# Altium schematic symbol library capacitor_murata_1206.SchLib: 470 symbols (part 10 of 10)
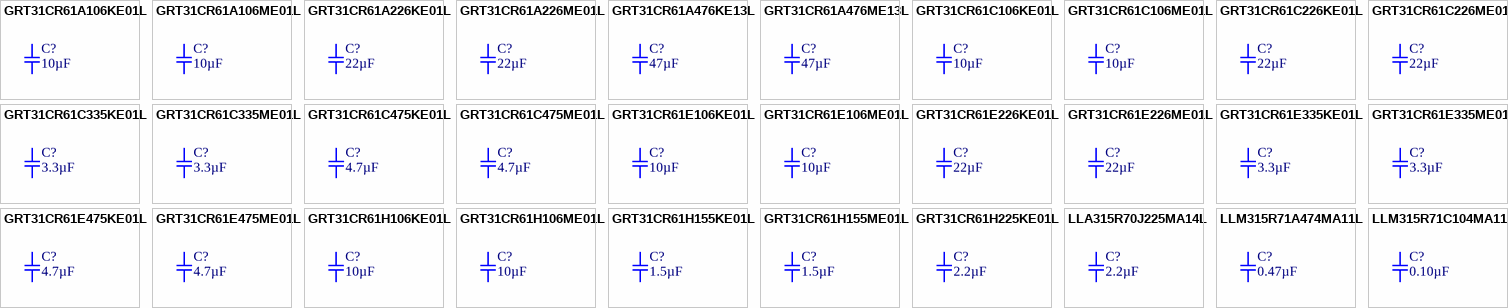
[diagram p20: symbols GRT31CR61A106KE01L to LLM315R71C104MA11L]

## GRT31CR61E475KE01L
designator C?, comment 4.7µF
CAP CER 4.7UF 25V X5R 1206; Part Number: GRT31CR61E475KE01L; Manufacturer: Murata Electronics North America; Factory Stock: 0; Unit Price (USD): 0.48; Minimum Quantity: 1; Tolerance: ±10%; Datasheets: http://search.murata.co.jp/Ceramy/image/img/A01X/G101/ENG/GRT31CR61E475KE01-01.pdf; Image: //media.digikey.com/Renders/Murata%20Renders/GR331BD72E473KW01L.jpg; Digi-Key Part Number: 490-12454-1-ND; Quantity Available: 3750; @ qty: 0; Packaging: Cut Tape (CT); Series: GRT; Part Status: Active; Value: 4.7µF; Voltage: 25V; Temperature Coefficient: X5R; Operating Temperature: -55°C ~ 85°C; Features: -; Ratings: AEC-Q200; Applications: Automotive; Mounting Type: Surface Mount, MLCC; Package / Case: 1206 (3216 Metric); Size / Dimension: 0.126" L x 0.063" W (3.20mm x 1.60mm); Height - Seated (Max): -; Thickness (Max): 0.071" (1.80mm); Lead Spacing: -; Lead Style: -
footprint SMD-1206C
pins: 1, 2

## GRT31CR61E475ME01L
designator C?, comment 4.7µF
CAP CER 4.7UF 25V X5R 1206; Part Number: GRT31CR61E475ME01L; Manufacturer: Murata Electronics North America; Factory Stock: 0; Unit Price (USD): 0.48; Minimum Quantity: 1; Tolerance: ±20%; Datasheets: http://search.murata.co.jp/Ceramy/image/img/A01X/G101/ENG/GRT31CR61E475ME01-01.pdf; Image: //media.digikey.com/Renders/Murata%20Renders/GR331BD72E473KW01L.jpg; Digi-Key Part Number: 490-12455-1-ND; Quantity Available: 4000; @ qty: 0; Packaging: Cut Tape (CT); Series: GRT; Part Status: Active; Value: 4.7µF; Voltage: 25V; Temperature Coefficient: X5R; Operating Temperature: -55°C ~ 85°C; Features: -; Ratings: AEC-Q200; Applications: Automotive; Mounting Type: Surface Mount, MLCC; Package / Case: 1206 (3216 Metric); Size / Dimension: 0.126" L x 0.063" W (3.20mm x 1.60mm); Height - Seated (Max): -; Thickness (Max): 0.071" (1.80mm); Lead Spacing: -; Lead Style: -
footprint SMD-1206C
pins: 1, 2

## GRT31CR61H106KE01L
designator C?, comment 10µF
CAP CER 10UF 50V X5R 1206; Part Number: GRT31CR61H106KE01L; Manufacturer: Murata Electronics North America; Factory Stock: 0; Unit Price (USD): 0.78; Minimum Quantity: 1; Tolerance: ±10%; Datasheets: http://search.murata.co.jp/Ceramy/image/img/A01X/G101/ENG/GRT31CR61H106KE01-01.pdf; Image: //media.digikey.com/Renders/Murata%20Renders/GR331BD72E473KW01L.jpg; Digi-Key Part Number: 490-12456-1-ND; Quantity Available: 2665; @ qty: 0; Packaging: Cut Tape (CT); Series: GRT; Part Status: Active; Value: 10µF; Voltage: 50V; Temperature Coefficient: X5R; Operating Temperature: -55°C ~ 85°C; Features: -; Ratings: AEC-Q200; Applications: Automotive; Mounting Type: Surface Mount, MLCC; Package / Case: 1206 (3216 Metric); Size / Dimension: 0.126" L x 0.063" W (3.20mm x 1.60mm); Height - Seated (Max): -; Thickness (Max): 0.071" (1.80mm); Lead Spacing: -; Lead Style: -
footprint SMD-1206C
pins: 1, 2

## GRT31CR61H106ME01L
designator C?, comment 10µF
CAP CER 10UF 50V X5R 1206; Part Number: GRT31CR61H106ME01L; Manufacturer: Murata Electronics North America; Factory Stock: 0; Unit Price (USD): 0.42; Minimum Quantity: 1; Tolerance: ±20%; Datasheets: http://search.murata.co.jp/Ceramy/image/img/A01X/G101/ENG/GRT31CR61H106ME01-01.pdf; Image: //media.digikey.com/Renders/Murata%20Renders/GR331BD72E473KW01L.jpg; Digi-Key Part Number: 490-12457-1-ND; Quantity Available: 3394; @ qty: 0; Packaging: Cut Tape (CT); Series: GRT; Part Status: Active; Value: 10µF; Voltage: 50V; Temperature Coefficient: X5R; Operating Temperature: -55°C ~ 85°C; Features: -; Ratings: AEC-Q200; Applications: Automotive; Mounting Type: Surface Mount, MLCC; Package / Case: 1206 (3216 Metric); Size / Dimension: 0.126" L x 0.063" W (3.20mm x 1.60mm); Height - Seated (Max): -; Thickness (Max): 0.071" (1.80mm); Lead Spacing: -; Lead Style: -
footprint SMD-1206C
pins: 1, 2

## GRT31CR61H155KE01L
designator C?, comment 1.5µF
CAP CER 1.5UF 50V X5R 1206; Part Number: GRT31CR61H155KE01L; Manufacturer: Murata Electronics North America; Factory Stock: 0; Unit Price (USD): 0.45; Minimum Quantity: 1; Tolerance: ±10%; Datasheets: http://search.murata.co.jp/Ceramy/image/img/A01X/G101/ENG/GRT31CR61H155KE01-01.pdf; Image: //media.digikey.com/Renders/Murata%20Renders/GR331BD72E473KW01L.jpg; Digi-Key Part Number: 490-12458-1-ND; Quantity Available: 1942; @ qty: 0; Packaging: Cut Tape (CT); Series: GRT; Part Status: Active; Value: 1.5µF; Voltage: 50V; Temperature Coefficient: X5R; Operating Temperature: -55°C ~ 85°C; Features: -; Ratings: AEC-Q200; Applications: Automotive; Mounting Type: Surface Mount, MLCC; Package / Case: 1206 (3216 Metric); Size / Dimension: 0.126" L x 0.063" W (3.20mm x 1.60mm); Height - Seated (Max): -; Thickness (Max): 0.071" (1.80mm); Lead Spacing: -; Lead Style: -
footprint SMD-1206C
pins: 1, 2

## GRT31CR61H155ME01L
designator C?, comment 1.5µF
CAP CER 1.5UF 50V X5R 1206; Part Number: GRT31CR61H155ME01L; Manufacturer: Murata Electronics North America; Factory Stock: 0; Unit Price (USD): 0.45; Minimum Quantity: 1; Tolerance: ±20%; Datasheets: http://search.murata.co.jp/Ceramy/image/img/A01X/G101/ENG/GRT31CR61H155ME01-01.pdf; Image: //media.digikey.com/Renders/Murata%20Renders/GR331BD72E473KW01L.jpg; Digi-Key Part Number: 490-12459-1-ND; Quantity Available: 3984; @ qty: 0; Packaging: Cut Tape (CT); Series: GRT; Part Status: Active; Value: 1.5µF; Voltage: 50V; Temperature Coefficient: X5R; Operating Temperature: -55°C ~ 85°C; Features: -; Ratings: AEC-Q200; Applications: Automotive; Mounting Type: Surface Mount, MLCC; Package / Case: 1206 (3216 Metric); Size / Dimension: 0.126" L x 0.063" W (3.20mm x 1.60mm); Height - Seated (Max): -; Thickness (Max): 0.071" (1.80mm); Lead Spacing: -; Lead Style: -
footprint SMD-1206C
pins: 1, 2

## GRT31CR61H225KE01L
designator C?, comment 2.2µF
CAP CER 2.2UF 50V X5R 1206; Part Number: GRT31CR61H225KE01L; Manufacturer: Murata Electronics North America; Factory Stock: 0; Unit Price (USD): 0.55; Minimum Quantity: 1; Tolerance: ±10%; Datasheets: http://search.murata.co.jp/Ceramy/image/img/A01X/G101/ENG/GRT31CR61H225KE01-01.pdf; Image: //media.digikey.com/Renders/Murata%20Renders/GR331BD72E473KW01L.jpg; Digi-Key Part Number: 490-12460-1-ND; Quantity Available: 3690; @ qty: 0; Packaging: Cut Tape (CT); Series: GRT; Part Status: Active; Value: 2.2µF; Voltage: 50V; Temperature Coefficient: X5R; Operating Temperature: -55°C ~ 85°C; Features: -; Ratings: AEC-Q200; Applications: Automotive; Mounting Type: Surface Mount, MLCC; Package / Case: 1206 (3216 Metric); Size / Dimension: 0.126" L x 0.063" W (3.20mm x 1.60mm); Height - Seated (Max): -; Thickness (Max): 0.071" (1.80mm); Lead Spacing: -; Lead Style: -
footprint SMD-1206C
pins: 1, 2

## LLA315R70J225MA14L
designator C?, comment 2.2µF
CAP CER 2.2UF 6.3V X7R 1206; Part Number: LLA315R70J225MA14L; Manufacturer: Murata Electronics North America; Factory Stock: 0; Unit Price (USD): 0.67; Minimum Quantity: 1; Tolerance: ±20%; Datasheets: http://www.murata.com/~/media/webrenewal/support/library/catalog/products/capacitor/mlcc/c02e.pdf; Image: //media.digikey.com/Renders/Murata%20Renders/LLA_1206(3216).jpg; Digi-Key Part Number: 490-4454-1-ND; Quantity Available: 7826; @ qty: 0; Packaging: Cut Tape (CT); Series: LLA; Part Status: Active; Value: 2.2µF; Voltage: 6.3V; Temperature Coefficient: X7R; Operating Temperature: -55°C ~ 125°C; Features: Low ESL (Multi-Terminal); Ratings: -; Applications: Bypass, Decoupling; Mounting Type: Surface Mount, MLCC; Package / Case: 1206 (3216 Metric); Size / Dimension: 0.126" L x 0.063" W (3.20mm x 1.60mm); Height - Seated (Max): -; Thickness (Max): 0.022" (0.55mm); Lead Spacing: -; Lead Style: -
footprint SMD-1206C
pins: 1, 2

## LLM315R71A474MA11L
designator C?, comment 0.47µF
CAP CER 0.47UF 10V X7R 1206; Part Number: LLM315R71A474MA11L; Manufacturer: Murata Electronics North America; Factory Stock: 0; Unit Price (USD): 0.98; Minimum Quantity: 1; Tolerance: ±20%; Datasheets: http://www.murata.com/~/media/webrenewal/support/library/catalog/products/capacitor/mlcc/c02e.pdf; Image: //media.digikey.com/Renders/Murata%20Renders/1206(LLM315).jpg; Digi-Key Part Number: 490-4499-1-ND; Quantity Available: 7990; @ qty: 0; Packaging: Cut Tape (CT); Series: LLM; Part Status: Active; Value: 0.47µF; Voltage: 10V; Temperature Coefficient: X7R; Operating Temperature: -55°C ~ 125°C; Features: Low ESL (Multi-Terminal); Ratings: -; Applications: Bypass, Decoupling; Mounting Type: Surface Mount, MLCC; Package / Case: 1206 (3216 Metric); Size / Dimension: 0.126" L x 0.063" W (3.20mm x 1.60mm); Height - Seated (Max): -; Thickness (Max): 0.022" (0.55mm); Lead Spacing: -; Lead Style: -
footprint SMD-1206C
pins: 1, 2

## LLM315R71C104MA11L
designator C?, comment 0.10µF
CAP CER 0.1UF 16V X7R 1206; Part Number: LLM315R71C104MA11L; Manufacturer: Murata Electronics North America; Factory Stock: 0; Unit Price (USD): 0.9; Minimum Quantity: 1; Tolerance: ±20%; Datasheets: http://www.murata.com/~/media/webrenewal/support/library/catalog/products/capacitor/mlcc/c02e.pdf; Image: //media.digikey.com/Renders/Murata%20Renders/1206(LLM315).jpg; Digi-Key Part Number: 490-4495-1-ND; Quantity Available: 2915; @ qty: 0; Packaging: Cut Tape (CT); Series: LLM; Part Status: Active; Value: 0.10µF; Voltage: 16V; Temperature Coefficient: X7R; Operating Temperature: -55°C ~ 125°C; Features: Low ESL (Multi-Terminal); Ratings: -; Applications: Bypass, Decoupling; Mounting Type: Surface Mount, MLCC; Package / Case: 1206 (3216 Metric); Size / Dimension: 0.126" L x 0.063" W (3.20mm x 1.60mm); Height - Seated (Max): -; Thickness (Max): 0.022" (0.55mm); Lead Spacing: -; Lead Style: -
footprint SMD-1206C
pins: 1, 2